# Altium footprint library 显示屏.PcbLib: 3 footprints
Each footprint in its own frame and in the unit in brackets; x right, y up, seen from the top. Pads: shape width x height; smd on the part's side, far side on the other; paste and mask are expansions set on the pad; w line width, h text height; cw(c..) or ccw(c..) is an arc to the next point about the centre after c.
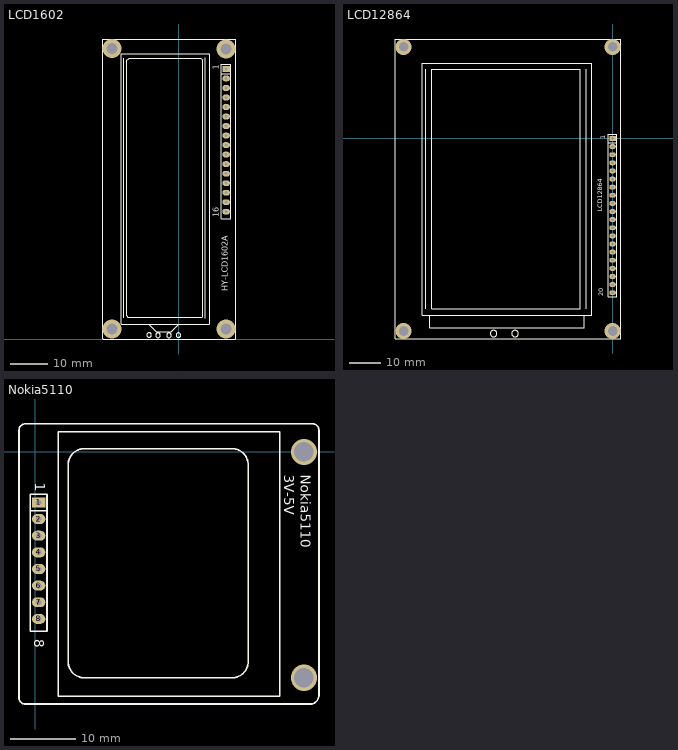
[diagram p0: the footprints below, top view; thin cyan lines are the x and y axes]

## LCD1602 [mil]
pads (16):
  rect 80x60 hole 32: 1(500,2838.58)
  oval 80x60 hole 32: 2(500,2738.58) 3(500,2638.58) 4(500,2538.58) 5(500,2438.58) 6(500,2338.58) 7(500,2238.58) 8(500,2138.58) 9(500,2038.58) 10(500,1938.58) 11(500,1838.58) 12(500,1738.58) 13(500,1638.58) 14(500,1538.58) 15(500,1438.58) 16(500,1338.58)
via -700,104.33 diameter 196.85 hole 118.11
via -700,3054.33 diameter 196.85 hole 118.11
via 500,3048.58 diameter 196.85 hole 118.11
via 500,104.33 diameter 196.85 hole 118.11
Top Overlay:
  lines w10: -800,3153.54 -797.64,3151.18 -797.64,2436.22 -797.64,368.58 -797.64,1.97 -795.67,0 -208.66,0 500,0 595.67,0 600,4.33 600,368.58 600,3123.58 ; -797.64,3153.54 -435.9,3153.54 319.37,3153.54 600,3153.54 600,3038.58 ; -575.59,225.2 -575.59,2950.39 ; -544.88,2929.53 -544.88,242.13 -531.1,228.35 245.67,228.35 253.54,236.22 253.54,2933.07 238.58,2948.03 238.58,2950 -525.2,2950 ; -543.31,2929.53 -525.2,2947.64 -524.8,2947.64 ; -314.96,157.48 -236.22,78.74 -78.74,78.74 0,157.48 ; -285.04,45.67 ccw(c-309.12,42.8) -284.88,42.07 ; -191.34,40.94 ccw(c-215.42,38.07) -191.18,37.35 ; -76.38,40.94 ccw(c-100.45,38.07) -76.22,37.35 ; 22.83,42.91 ccw(c-1.24,40.04) 22.99,39.31 ; 283.46,218.11 283.46,2957.09 ; 450,2788.58 550,2788.58 ; -600,157.48 -600,2998.58 240,2998.58 322.36,2998.58 324.85,157.48 -67.4,157.48 -600,157.48 ; 450,1263.58 550,1263.58 550,2888.58 450,2888.58 450,1263.58
  text "16" at 422.44,1277.95 h60
  text "1" at 422.44,2830.71 h60
  text "HY-LCD1602A" at 517.72,502.76 h60

## LCD12864 [mil]
pads (20):
  rect 80x60 hole 32: 1(0,0)
  oval 80x60 hole 32: 2(0,-100) 3(0,-200) 4(0,-300) 5(0,-400) 6(0,-500) 7(0,-600) 8(0,-700) 9(0,-800) 10(0,-900) 11(0,-1000) 12(0,-1100) 13(0,-1200) 14(0,-1300) 15(0,-1400) 16(0,-1500) 17(0,-1600) 18(0,-1700) 19(0,-1800) 20(0,-1900)
via 1.57,-2371.57 diameter 196.85 hole 118.11
via 1.57,1128.43 diameter 196.85 hole 118.11
via -2573.43,1128.43 diameter 196.85 hole 118.11
via -2573.43,-2371.57 diameter 196.85 hole 118.11
Top Overlay:
  circle w10: c-1465.85,-2403.15 r40.65
  circle w10: c-1201.28,-2403.15 r40.65
  lines w10: -2345.67,-2174.41 -2345.67,925 -1167.52,925 -616.34,925 -254.33,925 -254.33,724.41 -254.33,354.33 -254.33,-2174.41 -337.01,-2174.41 -888.19,-2174.41 -2340.75,-2174.41 ; -2345.67,320.67 -2345.67,675 ; -2300,-2100 -2300,850 ; -2250,-2174.41 -2250,-2330 -2248.11,-2331.89 -1100,-2331.89 -509.45,-2331.89 -351.89,-2331.89 -350,-2330 -350,-2174.41 ; -325,-2100 -325,850 ; -50,-50 50,-50 ; 100,200 100,1000 100,1225 -25,1225 -2675,1225 -2675,975 -2675,-2470 -570,-2470 100,-2470 100,285 ; -2225,-2100 -400,-2100 -400,850 -2225,850 -2225,-2100 ; -50,-1950 -50,50 50,50 50,-1950 -50,-1950
  text "20" at -112.99,-1942.13 h60
  text "1" at -89.37,-7.09 h60
  text "LCD12864" at -125,-900 h60

## Nokia5110 [mil]
pads (8):
  rect 80x60 hole 32: 1(19.68,-303.94)
  oval 80x60 hole 32: 2(19.68,-403.94) 3(19.68,-503.94) 4(19.68,-603.94) 5(19.68,-703.94) 6(19.68,-803.94) 7(19.68,-903.94) 8(19.68,-1003.94)
via 1614.17,-1358.27 diameter 157.48 hole 118.11
via 1614.17,0 diameter 157.48 hole 118.11
Top Overlay:
  lines w10: -98.43,-1485.04 -98.43,133.07 cw(c-61.02,131.1) -59.06,168.5 ; -98.43,-1481.1 ccw(c-61.42,-1478.74) -59.06,-1515.75 ; -67.72,-1515.75 19.68,-1515.75 531.5,-1515.75 1665.35,-1515.75 ; -30.32,-1078.35 -29.92,-1077.95 69.29,-1077.95 ; -30.32,-1075.2 -30.32,-253.94 69.69,-253.94 69.69,-1077.95 ; -30.32,-353.94 69.69,-353.94 ; 137.8,-51.18 137.8,121.26 901.57,121.26 1374.02,121.26 1468.5,121.26 1468.5,-300 1468.5,-1244.88 1468.5,-1468.5 ; 137.8,-31.54 137.8,-1441.73 137.8,-1468.5 996.06,-1468.5 1279.53,-1468.5 1468.5,-1468.5 ; 492.13,168.5 19.68,168.5 -59.06,168.5 ; 1653.54,-1516.54 ccw(c1649.61,-1461.42) 1704.72,-1457.48 1704.72,-1193.7 ; 1704.72,-1205.51 1704.72,-303.94 1704.72,129.13 ; 1704.72,125.2 ccw(c1665.35,129.13) 1669.29,168.5 -59.06,168.5 ; 1468.5,-1468.5 1468.5,-1468.5 ; 196.85,-1259.84 ccw(c295.28,-1259.84) 295.28,-1358.27 1181.1,-1358.27 ccw(c1181.1,-1259.84) 1279.53,-1259.84 1279.53,-78.74 ccw(c1181.1,-78.74) 1181.1,19.69 295.28,19.69 ccw(c295.28,-78.74) 196.85,-78.74 196.85,-1259.84
  text "3V-5V" at 1496.06,-137.8 h60
  text "Nokia5110" at 1594.49,-137.8 h60
  text "1" at 0,-185.83 h60
  text "8" at -7.87,-1126.77 h60